# Altium schematic symbol library CAP-SM-0402-X7R-1uF.Schlib: 1 symbol
Pins are listed as number, name and electrical type; pins without a type are passive.

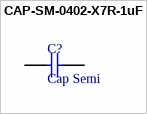
[diagram p0: symbol CAP-SM-0402-X7R-1uF]

## CAP-SM-0402-X7R-1uF
designator C?, comment Cap Semi
CAP SM 0402 X7R 1uF 10%
pins: 1, 2